# Altium schematic symbol library esq_lib.SchLib: 2 symbols
Pins are listed as number, name and electrical type; pins without a type are passive.

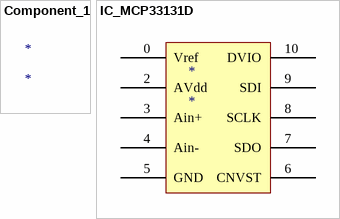
[diagram p0: symbols Component_1 to IC_MCP33131D]

## Component_1
designator *

## IC_MCP33131D
designator *
footprint TSSOP50P490X110-10N (MCP33111D)
pins: 0 Vref, 2 AVdd, 3 Ain+, 4 Ain-, 5 GND, 6 CNVST, 7 SDO, 8 SCLK, 9 SDI, 10 DVIO